# Altium schematic symbol library THD Voltage Reference and Regulators.SchLib: 227 symbols (part 2 of 2)
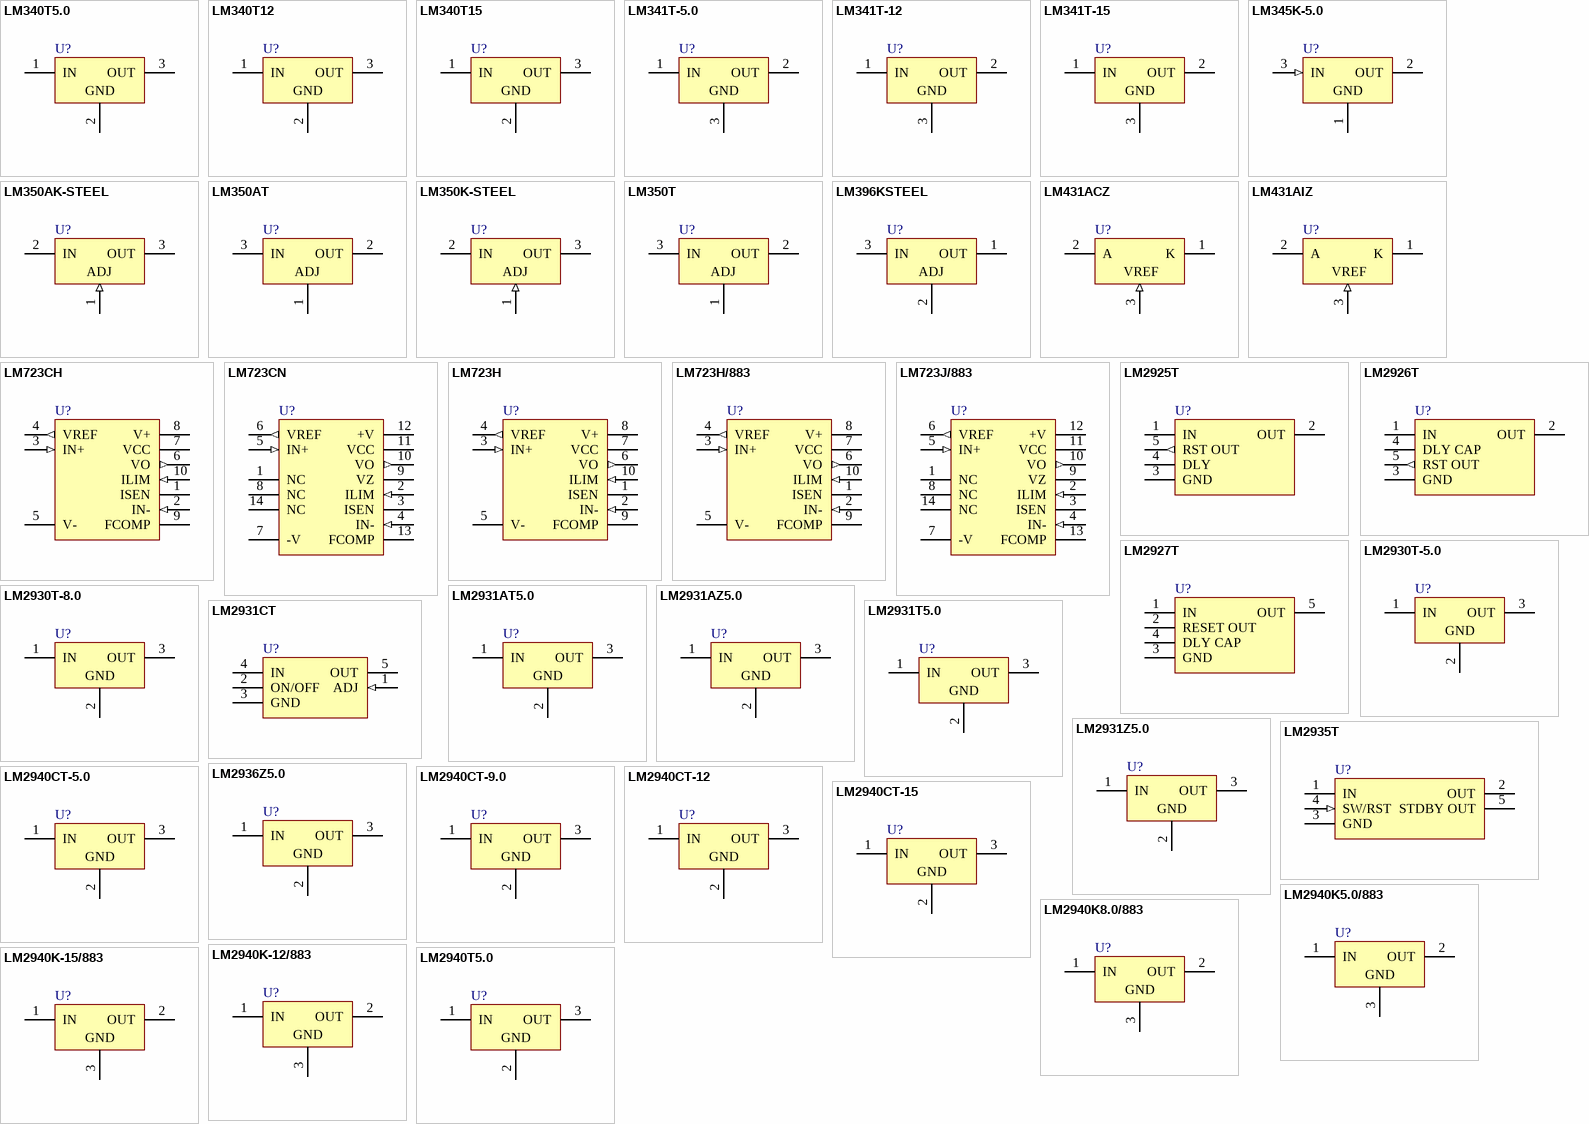
[diagram p6: symbols LM340T5.0 to LM2940T5.0]

## LM2940CT-9.0
designator U?
1A Low-Dropout Regulator; Manufacturer: National Semiconductor; Class: Power Management; SubClass: Voltage Regulator; Published: 15/04/2002; Publisher: Altium Hobart Technology Centre
footprint SFM-T3/A4.7V
pins: 1 IN (power), 2 GND (power), 3 OUT (power)

## LM2940CT-12
designator U?
1A Low-Dropout Regulator; Manufacturer: National Semiconductor; Class: Power Management; SubClass: Voltage Regulator; Note: Tab is connected to GND; Published: 15/04/2002; Publisher: Altium Hobart Technology Centre
footprint SFM-T3/A4.7V
pins: 1 IN (power), 2 GND (power), 3 OUT (power)

## LM2940CT-15
designator U?
1A Low-Dropout Regulator; Manufacturer: National Semiconductor; Class: Power Management; SubClass: Voltage Regulator; Note: Tab is connected to GND; Published: 15/04/2002; Publisher: Altium Hobart Technology Centre
footprint SFM-T3/A4.7V
pins: 1 IN (power), 2 GND (power), 3 OUT (power)

## LM2940K5.0/883
designator U?
1A Low-Dropout Regulator; Manufacturer: National Semiconductor; Class: Power Management; SubClass: Voltage Regulator; Note: Case is GND; Published: 15/04/2002; Publisher: Altium Hobart Technology Centre
footprint MBFM-P2/P7.25
pins: 1 IN (power), 2 OUT (power), 3 GND (power)

## LM2940K8.0/883
designator U?
1A Low-Dropout Regulator; Manufacturer: National Semiconductor; Class: Power Management; SubClass: Voltage Regulator; Note: Case is GND; Published: 15/04/2002; Publisher: Altium Hobart Technology Centre
footprint MBFM-P2/P7.25
pins: 1 IN (power), 2 OUT (power), 3 GND (power)

## LM2940K-12/883
designator U?
1A Low-Dropout Regulator; Manufacturer: National Semiconductor; Class: Power Management; SubClass: Voltage Regulator; Published: 15/04/2002; Publisher: Altium Hobart Technology Centre
footprint MBFM-P2/P7.25
pins: 1 IN (power), 2 OUT (power), 3 GND (power)

## LM2940K-15/883
designator U?
1A Low-Dropout Regulator; Manufacturer: National Semiconductor; Class: Power Management; SubClass: Voltage Regulator; Published: 15/04/2002; Publisher: Altium Hobart Technology Centre
footprint MBFM-P2/P7.25
pins: 1 IN (power), 2 OUT (power), 3 GND (power)

## LM2940T5.0
designator U?
1A Low-Dropout Regulator; Manufacturer: National Semiconductor; Class: Power Management; SubClass: Voltage Regulator; Note: Tab is connected to GND; Published: 15/04/2002; Publisher: Altium Hobart Technology Centre
footprint SFM-T3/A4.7V
pins: 1 IN (power), 2 GND (power), 3 OUT (power)

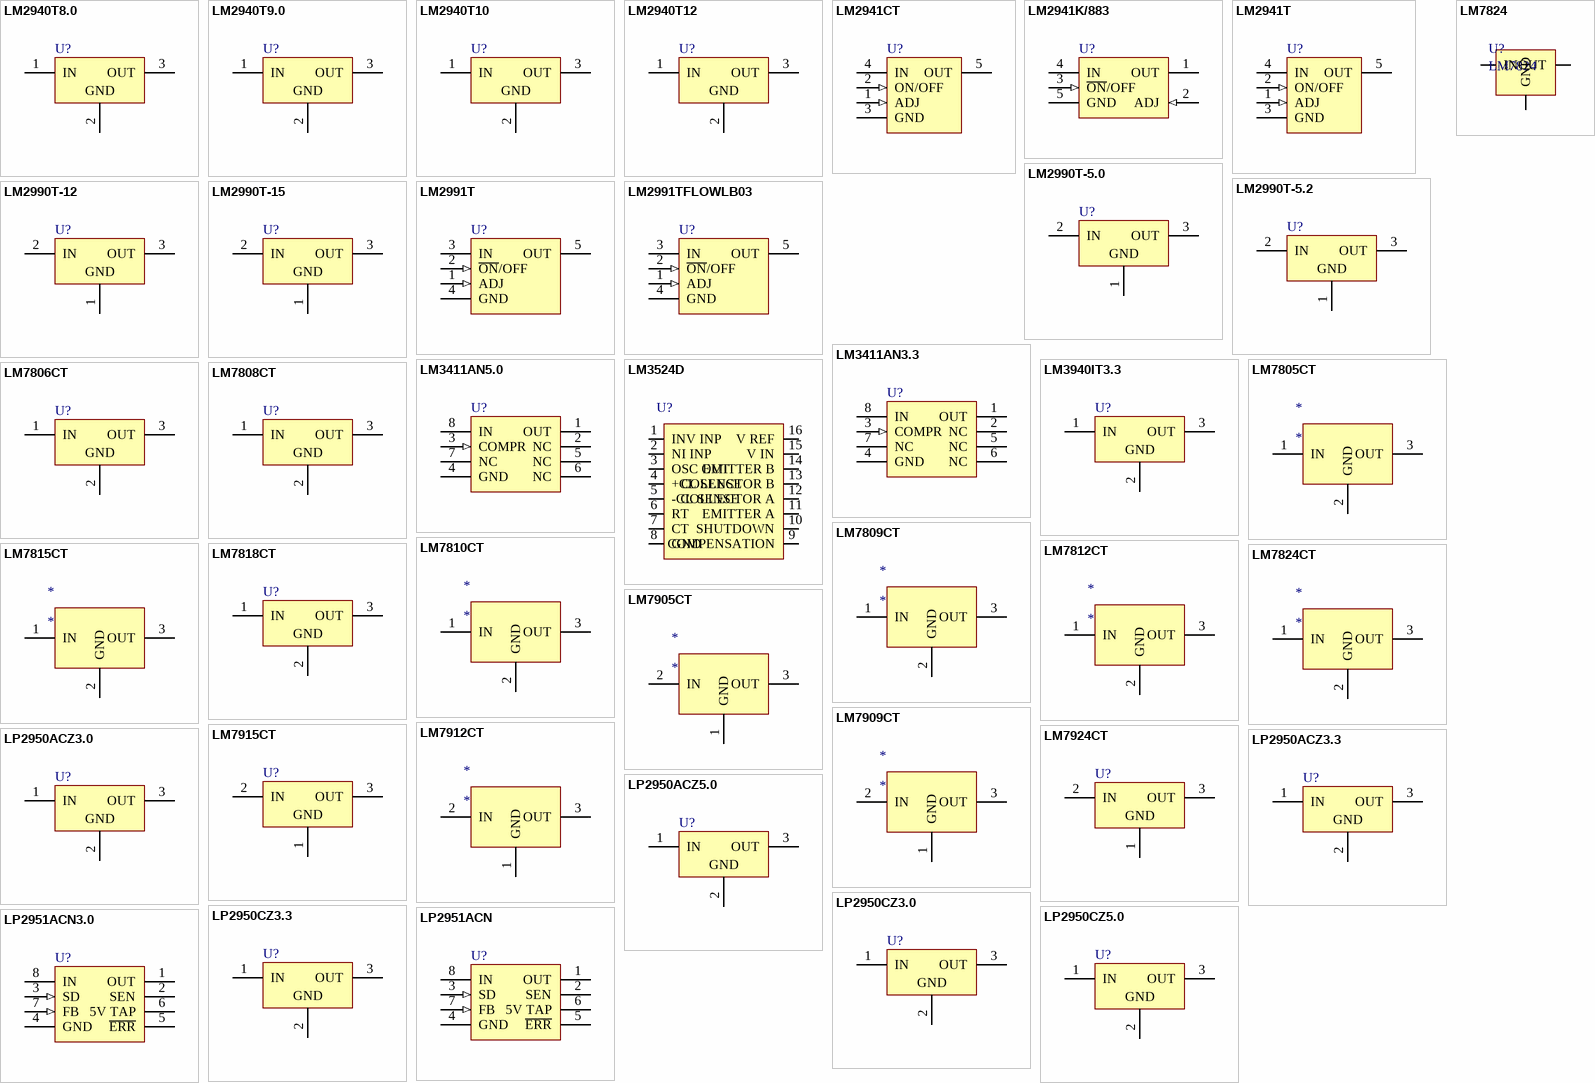
[diagram p4: symbols LM2940T8.0 to LP2951ACN3.0]

## LM2940T8.0
designator U?
1A Low-Dropout Regulator; Manufacturer: National Semiconductor; Class: Power Management; SubClass: Voltage Regulator; Note: Tab is connected to GND; Published: 15/04/2002; Publisher: Altium Hobart Technology Centre
footprint SFM-T3/A4.7V
pins: 1 IN (power), 2 GND (power), 3 OUT (power)

## LM2940T9.0
designator U?
1A Low-Dropout Regulator; Manufacturer: National Semiconductor; Class: Power Management; SubClass: Voltage Regulator; Note: Tab is connected to GND; Published: 15/04/2002; Publisher: Altium Hobart Technology Centre
footprint SFM-T3/A4.7V
pins: 1 IN (power), 2 GND (power), 3 OUT (power)

## LM2940T10
designator U?
1A Low-Dropout Regulator; Manufacturer: National Semiconductor; Class: Power Management; SubClass: Voltage Regulator; Note: Tab is connected to GND; Published: 15/04/2002; Publisher: Altium Hobart Technology Centre
footprint SFM-T3/A4.7V
pins: 1 IN (power), 2 GND (power), 3 OUT (power)

## LM2940T12
designator U?
1A Low-Dropout Regulator; Manufacturer: National Semiconductor; Class: Power Management; SubClass: Voltage Regulator; Note: Tab is connected to GND; Published: 15/04/2002; Publisher: Altium Hobart Technology Centre
footprint SFM-T3/A4.7V
pins: 1 IN (power), 2 GND (power), 3 OUT (power)

## LM2941CT
designator U?
1A Dropout Adjustable Regulator; Manufacturer: National Semiconductor; Class: Power Management; SubClass: Voltage Regulator; Note: Tab is connected to GND; Published: 15/04/2002; Publisher: Altium Hobart Technology Centre
footprint SFM-T5/X1.4V
pins: 1 ADJ (in), 2 ON/OFF (in), 3 GND (power), 4 IN (power), 5 OUT (power)

## LM2941K/883
designator U?
1A Low-Dropout Adjustable Regulator; Manufacturer: National Semiconductor; Class: Power Management; SubClass: Voltage Regulator; Note: Case is GND; Published: 15/04/2002; Publisher: Altium Hobart Technology Centre
footprint MBFM-P4/R13
pins: 1 OUT (power), 2 ADJ (in), 3 ~{ON}/OFF (in), 4 IN (power), 5 GND (power)

## LM2941T
designator U?
1A Dropout Adjustable Regulator; Manufacturer: National Semiconductor; Class: Power Management; SubClass: Voltage Regulator; Note: Tab is connected to GND; Published: 15/04/2002; Publisher: Altium Hobart Technology Centre
footprint SFM-T5/X1.4V
pins: 1 ADJ (in), 2 ON/OFF (in), 3 GND (power), 4 IN (power), 5 OUT (power)

## LM2990T-5.0
designator U?
Negative Low-Dropout Regulator; Manufacturer: National Semiconductor; Class: Power Management; SubClass: Voltage Regulator; Note: Tab is connected to Input; Published: 15/04/2002; Publisher: Altium Hobart Technology Centre
footprint SFM-T3/A4.7V
pins: 1 GND (power), 2 IN (power), 3 OUT (power)

## LM2990T-5.2
designator U?
Negative Low-Dropout Regulator; Manufacturer: National Semiconductor; Class: Power Management; SubClass: Voltage Regulator; Note: Tab is connected to Input; Published: 15/04/2002; Publisher: Altium Hobart Technology Centre
footprint SFM-T3/A4.7V
pins: 1 GND (power), 2 IN (power), 3 OUT (power)

## LM2990T-12
designator U?
Negative Low-Dropout Regulator; Manufacturer: National Semiconductor; Class: Power Management; SubClass: Voltage Regulator; Note: Tab is connected to Input; Published: 15/04/2002; Publisher: Altium Hobart Technology Centre
footprint SFM-T3/A4.7V
pins: 1 GND (power), 2 IN (power), 3 OUT (power)

## LM2990T-15
designator U?
Negative Low-Dropout Regulator; Manufacturer: National Semiconductor; Class: Power Management; SubClass: Voltage Regulator; Note: Tab is connected to Input; Published: 15/04/2002; Publisher: Altium Hobart Technology Centre
footprint SFM-T3/A4.7V
pins: 1 GND (power), 2 IN (power), 3 OUT (power)

## LM2991T
designator U?
Negative Low-Dropout Adjustable Regulator; Manufacturer: National Semiconductor; Class: Power Management; SubClass: Voltage Regulator; Note: Tab is connected to Input; Published: 15/04/2002; Publisher: Altium Hobart Technology Centre
footprint SFM-T5/X1.4V
pins: 1 ADJ (in), 2 ~{ON}/OFF (in), 3 IN (power), 4 GND (power), 5 OUT (power)

## LM2991TFLOWLB03
designator U?
Negative Low-Dropout Adjustable Regulator; Manufacturer: National Semiconductor; Class: Power Management; SubClass: Voltage Regulator; Note: Tab is connected to Input; Published: 15/04/2002; Publisher: Altium Hobart Technology Centre
footprint DFM-T5/A4.7V
pins: 1 ADJ (in), 2 ~{ON}/OFF (in), 3 IN (power), 4 GND (power), 5 OUT (power)

## LM3411AN3.3
designator U?
Precision Secondary Regulation / Driver; Manufacturer: National Semiconductor; Class: Power Management; SubClass: Voltage Regulator; Published: 15/04/2002; Publisher: Altium Hobart Technology Centre
footprint DIP-8
pins: 1 OUT (power), 2 NC, 3 COMPR (in), 4 GND (power), 5 NC, 6 NC, 7 NC, 8 IN (power)

## LM3411AN5.0
designator U?
Precision Secondary Regulation / Driver; Manufacturer: National Semiconductor; Class: Power Management; SubClass: Voltage Regulator; Published: 15/04/2002; Publisher: Altium Hobart Technology Centre
footprint DIP-8
pins: 1 OUT (power), 2 NC, 3 COMPR (in), 4 GND (power), 5 NC, 6 NC, 7 NC, 8 IN (power)

## LM3524D
designator U?
Regulating (PWM) Pulse Width Modulator with High Precision Voltage Reference
footprint DIP16-300 (DIP, Molded; 16 Leads; Row Spacing 7.62 mm; Pitch 2.54 mm)
pins: 1 INV INP, 2 NI INP, 3 OSC OUT, 4 +CL SENSE, 5 -CL SENSE, 6 RT, 7 CT, 8 GND, 9 COMPENSATION, 10 SHUTDOWN, 11 EMITTER A, 12 COLLECTOR A, 13 COLLECTOR B, 14 EMITTER B, 15 V IN, 16 V REF

## LM3940IT3.3
designator U?
1A Low-Dropout Regulator For 5V to 3.3V Conversion; Manufacturer: National Semiconductor; Class: Power Management; SubClass: Voltage Regulator; Note: Tab is connected to GND; Published: 15/04/2002; Publisher: Altium Hobart Technology Centre
footprint SFM-T3/A4.7V
pins: 1 IN (power), 2 GND (power), 3 OUT (power)

## LM7805CT
designator *
3 Terminal 5V 1A Positive Voltage Regualtor
footprint TO-220AB-Vertical (TO, Thru-Hole, Vertical, Heatsink Mounted; 3 In-Line Leads; Pitch 2.54 mm)
footprint TO-220AB-Horizontal (TO, Thru-Hole, Vertical, Heatsink Mounted; 3 In-Line Leads; Pitch 2.54 mm)
pins: 1 IN (power), 2 GND (power), 3 OUT

## LM7806CT
designator U?
Series 3-Terminal Positive Regulator; Manufacturer: National Semiconductor; Class: Power Management; SubClass: Voltage Regulator; Note: Tab is connected to GND; Published: 15/04/2002; Publisher: Altium Hobart Technology Centre
footprint TO-220AB-Horizontal (TO, Thru-Hole, Vertical, Heatsink Mounted; 3 In-Line Leads; Pitch 2.54 mm)
footprint TO-220AB-Vertical (TO, Thru-Hole, Vertical, Heatsink Mounted; 3 In-Line Leads; Pitch 2.54 mm)
pins: 1 IN (power), 2 GND (power), 3 OUT (power)

## LM7808CT
designator U?
Series 3-Terminal Positive Regulator; Manufacturer: National Semiconductor; Class: Power Management; SubClass: Voltage Regulator; Note: Tab is connected to GND; Published: 15/04/2002; Publisher: Altium Hobart Technology Centre
footprint TO-220AB-Horizontal (TO, Thru-Hole, Vertical, Heatsink Mounted; 3 In-Line Leads; Pitch 2.54 mm)
footprint TO-220AB-Vertical (TO, Thru-Hole, Vertical, Heatsink Mounted; 3 In-Line Leads; Pitch 2.54 mm)
pins: 1 IN (power), 2 GND (power), 3 OUT (power)

## LM7809CT
designator *
3 Terminal 9V 1A Positive Voltage Regualtor
footprint TO-220AB-Vertical (TO, Thru-Hole, Vertical, Heatsink Mounted; 3 In-Line Leads; Pitch 2.54 mm)
footprint TO-220AB-Horizontal (TO, Thru-Hole, Vertical, Heatsink Mounted; 3 In-Line Leads; Pitch 2.54 mm)
pins: 1 IN (power), 2 GND (power), 3 OUT

## LM7810CT
designator *
3 Terminal 10V 1A Positive Voltage Regualtor
footprint TO-220AB-Vertical (TO, Thru-Hole, Vertical, Heatsink Mounted; 3 In-Line Leads; Pitch 2.54 mm)
footprint TO-220AB-Horizontal (TO, Thru-Hole, Vertical, Heatsink Mounted; 3 In-Line Leads; Pitch 2.54 mm)
pins: 1 IN (power), 2 GND (power), 3 OUT

## LM7812CT
designator *
3 Terminal 12V 1A Positive Voltage Regualtor
footprint TO-220AB-Vertical (TO, Thru-Hole, Vertical, Heatsink Mounted; 3 In-Line Leads; Pitch 2.54 mm)
footprint TO-220AB-Horizontal (TO, Thru-Hole, Vertical, Heatsink Mounted; 3 In-Line Leads; Pitch 2.54 mm)
pins: 1 IN (power), 2 GND (power), 3 OUT

## LM7815CT
designator *
3 Terminal 15V 1A Positive Voltage Regualtor
footprint TO-220AB-Vertical (TO, Thru-Hole, Vertical, Heatsink Mounted; 3 In-Line Leads; Pitch 2.54 mm)
footprint TO-220AB-Horizontal (TO, Thru-Hole, Vertical, Heatsink Mounted; 3 In-Line Leads; Pitch 2.54 mm)
pins: 1 IN (power), 2 GND (power), 3 OUT

## LM7818CT
designator U?
Series 3-Terminal Positive Regulator; Manufacturer: National Semiconductor; Class: Power Management; SubClass: Voltage Regulator; Note: Tab is connected to GND; Published: 15/04/2002; Publisher: Altium Hobart Technology Centre
footprint TO-220AB-Horizontal (TO, Thru-Hole, Vertical, Heatsink Mounted; 3 In-Line Leads; Pitch 2.54 mm)
footprint TO-220AB-Vertical (TO, Thru-Hole, Vertical, Heatsink Mounted; 3 In-Line Leads; Pitch 2.54 mm)
pins: 1 IN (power), 2 GND (power), 3 OUT (power)

## LM7824
designator U?
1A, 24V LDO Voltage Regulator
footprint TO-220AB-Horizontal (TO, Thru-Hole, Vertical, Heatsink Mounted; 3 In-Line Leads; Pitch 2.54 mm)
footprint TO-220AB-Vertical (TO, Thru-Hole, Vertical, Heatsink Mounted; 3 In-Line Leads; Pitch 2.54 mm)
pins: 1 IN, 2 GND, 3 OUT

## LM7824CT
designator *
3 Terminal 24V 1A Positive Voltage Regualtor
footprint TO-220AB-Vertical (TO, Thru-Hole, Vertical, Heatsink Mounted; 3 In-Line Leads; Pitch 2.54 mm)
footprint TO-220AB-Horizontal (TO, Thru-Hole, Vertical, Heatsink Mounted; 3 In-Line Leads; Pitch 2.54 mm)
pins: 1 IN (power), 2 GND (power), 3 OUT

## LM7905CT
designator *
3 Terminal 5V 1A Negative Voltage Regualtor
footprint TO-220AB-Vertical (TO, Thru-Hole, Vertical, Heatsink Mounted; 3 In-Line Leads; Pitch 2.54 mm)
footprint TO-220AB-Horizontal (TO, Thru-Hole, Vertical, Heatsink Mounted; 3 In-Line Leads; Pitch 2.54 mm)
pins: 1 GND (power), 2 IN (power), 3 OUT

## LM7909CT
designator *
3 Terminal 9V 1A Negative Voltage Regualtor
footprint TO-220AB-Vertical (TO, Thru-Hole, Vertical, Heatsink Mounted; 3 In-Line Leads; Pitch 2.54 mm)
footprint TO-220AB-Horizontal (TO, Thru-Hole, Vertical, Heatsink Mounted; 3 In-Line Leads; Pitch 2.54 mm)
pins: 1 GND (power), 2 IN (power), 3 OUT

## LM7912CT
designator *
3 Terminal 12V 1A Negative Voltage Regualtor
footprint TO-220AB-Vertical (TO, Thru-Hole, Vertical, Heatsink Mounted; 3 In-Line Leads; Pitch 2.54 mm)
footprint TO-220AB-Horizontal (TO, Thru-Hole, Vertical, Heatsink Mounted; 3 In-Line Leads; Pitch 2.54 mm)
pins: 1 GND (power), 2 IN (power), 3 OUT

## LM7915CT
designator U?
3-Terminal Negative Regulator; Manufacturer: National Semiconductor; Class: Power Management; SubClass: Voltage Regulator; Note: Tab is connected to Input; Published: 15/04/2002; Publisher: Altium Hobart Technology Centre
footprint TO-220AB-Horizontal (TO, Thru-Hole, Vertical, Heatsink Mounted; 3 In-Line Leads; Pitch 2.54 mm)
footprint TO-220AB-Vertical (TO, Thru-Hole, Vertical, Heatsink Mounted; 3 In-Line Leads; Pitch 2.54 mm)
pins: 1 GND (power), 2 IN (power), 3 OUT (power)

## LM7924CT
designator U?
3-Terminal Negative Regulator; Manufacturer: National Semiconductor; Class: Power Management; SubClass: Voltage Regulator; Note: Tab is connected to Input; Published: 15/04/2002; Publisher: Altium Hobart Technology Centre
footprint TO-220AB-Horizontal (TO, Thru-Hole, Vertical, Heatsink Mounted; 3 In-Line Leads; Pitch 2.54 mm)
footprint TO-220AB-Vertical (TO, Thru-Hole, Vertical, Heatsink Mounted; 3 In-Line Leads; Pitch 2.54 mm)
pins: 1 GND (power), 2 IN (power), 3 OUT (power)

## LP2950ACZ3.0
designator U?
Series of Adjustable Micropower Voltage Regulator; Manufacturer: National Semiconductor; Class: Power Management; Published: 15/04/2002; Publisher: Altium Hobart Technology Centre; SubClass: Voltage Regulator
footprint BCY-W3/E3.7
pins: 1 IN (power), 2 GND (power), 3 OUT (power)

## LP2950ACZ3.3
designator U?
Series of Adjustable Micropower Voltage Regulator; Manufacturer: National Semiconductor; Class: Power Management; Published: 15/04/2002; Publisher: Altium Hobart Technology Centre; SubClass: Voltage Regulator
footprint BCY-W3/E3.7
pins: 1 IN (power), 2 GND (power), 3 OUT (power)

## LP2950ACZ5.0
designator U?
Series of Adjustable Micropower Voltage Regulator; Manufacturer: National Semiconductor; Class: Power Management; Published: 15/04/2002; Publisher: Altium Hobart Technology Centre; SubClass: Voltage Regulator
footprint BCY-W3/E3.7
pins: 1 IN (power), 2 GND (power), 3 OUT (power)

## LP2950CZ3.0
designator U?
Series of Adjustable Micropower Voltage Regulator; Manufacturer: National Semiconductor; Class: Power Management; Published: 15/04/2002; Publisher: Altium Hobart Technology Centre; SubClass: Voltage Regulator
footprint BCY-W3/E3.7
pins: 1 IN (power), 2 GND (power), 3 OUT (power)

## LP2950CZ3.3
designator U?
Series of Adjustable Micropower Voltage Regulator; Manufacturer: National Semiconductor; Class: Power Management; Published: 15/04/2002; Publisher: Altium Hobart Technology Centre; SubClass: Voltage Regulator
footprint BCY-W3/E3.7
pins: 1 IN (power), 2 GND (power), 3 OUT (power)

## LP2950CZ5.0
designator U?
Series of Adjustable Micropower Voltage Regulator; Manufacturer: National Semiconductor; Class: Power Management; Published: 15/04/2002; Publisher: Altium Hobart Technology Centre; SubClass: Voltage Regulator
footprint BCY-W3/E3.7
pins: 1 IN (power), 2 GND (power), 3 OUT (power)

## LP2951ACN
designator U?
Series of Adjustable Micropower Voltage Regulator; Manufacturer: National Semiconductor; Class: Power Management; Published: 15/04/2002; Publisher: Altium Hobart Technology Centre; SubClass: Voltage Regulator
footprint DIP-8
pins: 1 OUT (power), 2 SEN, 3 SD (in), 4 GND (power), 5 ~{ERR} (oc), 6 5V TAP, 7 FB (in), 8 IN (power)

## LP2951ACN3.0
designator U?
Series of Adjustable Micropower Voltage Regulator; Manufacturer: National Semiconductor; Class: Power Management; Published: 15/04/2002; Publisher: Altium Hobart Technology Centre; SubClass: Voltage Regulator
footprint DIP-8
pins: 1 OUT (power), 2 SEN, 3 SD (in), 4 GND (power), 5 ~{ERR} (oc), 6 5V TAP, 7 FB (in), 8 IN (power)

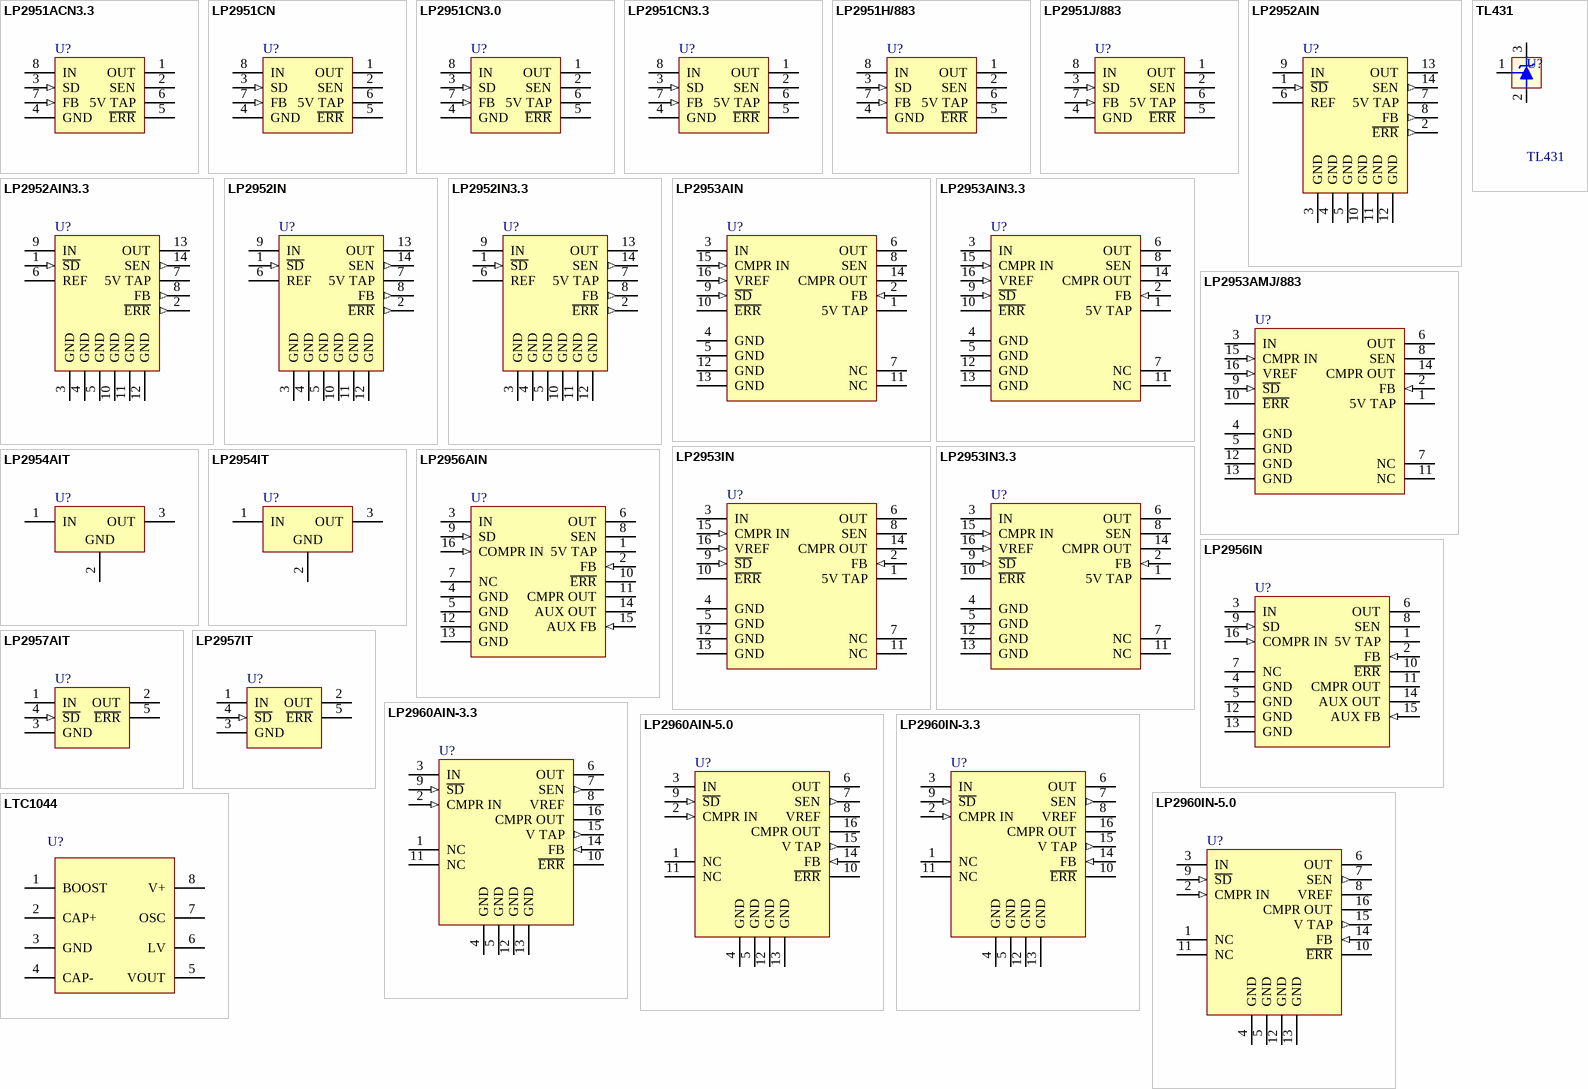
[diagram p5: symbols LP2951ACN3.3 to TL431]

## LP2951ACN3.3
designator U?
Series of Adjustable Micropower Voltage Regulator; Manufacturer: National Semiconductor; Class: Power Management; Published: 15/04/2002; Publisher: Altium Hobart Technology Centre; SubClass: Voltage Regulator
footprint DIP-8
pins: 1 OUT (power), 2 SEN, 3 SD (in), 4 GND (power), 5 ~{ERR} (oc), 6 5V TAP, 7 FB (in), 8 IN (power)

## LP2951CN
designator U?
Series of Adjustable Micropower Voltage Regulator; Manufacturer: National Semiconductor; Class: Power Management; Published: 15/04/2002; Publisher: Altium Hobart Technology Centre; SubClass: Voltage Regulator
footprint DIP-8
pins: 1 OUT (power), 2 SEN, 3 SD (in), 4 GND (power), 5 ~{ERR} (oc), 6 5V TAP, 7 FB (in), 8 IN (power)

## LP2951CN3.0
designator U?
Series of Adjustable Micropower Voltage Regulator; Manufacturer: National Semiconductor; Class: Power Management; Published: 15/04/2002; Publisher: Altium Hobart Technology Centre; SubClass: Voltage Regulator
footprint DIP-8
pins: 1 OUT (power), 2 SEN, 3 SD (in), 4 GND (power), 5 ~{ERR} (oc), 6 5V TAP, 7 FB (in), 8 IN (power)

## LP2951CN3.3
designator U?
Series of Adjustable Micropower Voltage Regulator; Manufacturer: National Semiconductor; Class: Power Management; Published: 15/04/2002; Publisher: Altium Hobart Technology Centre; SubClass: Voltage Regulator
footprint DIP-8
pins: 1 OUT (power), 2 SEN, 3 SD (in), 4 GND (power), 5 ~{ERR} (oc), 6 5V TAP, 7 FB (in), 8 IN (power)

## LP2951H/883
designator U?
Series of Adjustable Micropower Voltage Regulator; Manufacturer: National Semiconductor; Class: Power Management; Published: 15/04/2002; Publisher: Altium Hobart Technology Centre; SubClass: Voltage Regulator
footprint CAN-8/J.9
pins: 1 OUT (power), 2 SEN, 3 SD (in), 4 GND (power), 5 ~{ERR} (oc), 6 5V TAP, 7 FB (in), 8 IN (power)

## LP2951J/883
designator U?
Series of Adjustable Micropower Voltage Regulator; Manufacturer: National Semiconductor; Class: Power Management; Published: 15/04/2002; Publisher: Altium Hobart Technology Centre; SubClass: Voltage Regulator
footprint DIP-8
pins: 1 OUT (power), 2 SEN, 3 SD (in), 4 GND (power), 5 ~{ERR} (oc), 6 5V TAP, 7 FB (in), 8 IN (power)

## LP2952AIN
designator U?
Adjustable Micropower Low-Dropout Voltage Regulator; Manufacturer: National Semiconductor; Class: Power Management; Published: 15/04/2002; Publisher: Altium Hobart Technology Centre; SubClass: Voltage Regulator
footprint DIP-14/D19.7
pins: 1 ~{SD} (in), 2 ~{ERR} (out), 3 GND (power), 4 GND (power), 5 GND (power), 6 REF (power), 7 5V TAP (power), 8 FB (out), 9 IN (power), 10 GND (power), 11 GND (power), 12 GND (power), 13 OUT (power), 14 SEN (out)

## LP2952AIN3.3
designator U?
Adjustable Micropower Low-Dropout Voltage Regulator; Manufacturer: National Semiconductor; Class: Power Management; Published: 15/04/2002; Publisher: Altium Hobart Technology Centre; SubClass: Voltage Regulator
footprint DIP-14/D19.7
pins: 1 ~{SD} (in), 2 ~{ERR} (out), 3 GND (power), 4 GND (power), 5 GND (power), 6 REF (power), 7 5V TAP (power), 8 FB (out), 9 IN (power), 10 GND (power), 11 GND (power), 12 GND (power), 13 OUT (power), 14 SEN (out)

## LP2952IN
designator U?
Adjustable Micropower Low-Dropout Voltage Regulator; Manufacturer: National Semiconductor; Class: Power Management; Published: 15/04/2002; Publisher: Altium Hobart Technology Centre; SubClass: Voltage Regulator
footprint DIP-14/D19.7
pins: 1 ~{SD} (in), 2 ~{ERR} (out), 3 GND (power), 4 GND (power), 5 GND (power), 6 REF (power), 7 5V TAP (power), 8 FB (out), 9 IN (power), 10 GND (power), 11 GND (power), 12 GND (power), 13 OUT (power), 14 SEN (out)

## LP2952IN3.3
designator U?
Adjustable Micropower Low-Dropout Voltage Regulator; Manufacturer: National Semiconductor; Class: Power Management; Published: 15/04/2002; Publisher: Altium Hobart Technology Centre; SubClass: Voltage Regulator
footprint DIP-14/D19.7
pins: 1 ~{SD} (in), 2 ~{ERR} (out), 3 GND (power), 4 GND (power), 5 GND (power), 6 REF (power), 7 5V TAP (power), 8 FB (out), 9 IN (power), 10 GND (power), 11 GND (power), 12 GND (power), 13 OUT (power), 14 SEN (out)

## LP2953AIN
designator U?
Adjustable Micropower Low-Dropout Voltage Regulator; Manufacturer: National Semiconductor; Class: Power Management; Published: 15/04/2002; Publisher: Altium Hobart Technology Centre; SubClass: Voltage Regulator
footprint DIP-16/D22.5
pins: 1 5V TAP, 2 FB (in), 3 IN (power), 4 GND (power), 5 GND (power), 6 OUT (power), 7 NC, 8 SEN, 9 ~{SD} (in), 10 ~{ERR} (oc), 11 NC, 12 GND (power), 13 GND (power), 14 CMPR OUT (oc), 15 CMPR IN (in), 16 VREF (in)

## LP2953AIN3.3
designator U?
Adjustable Micropower Low-Dropout Voltage Regulator; Manufacturer: National Semiconductor; Class: Power Management; Published: 15/04/2002; Publisher: Altium Hobart Technology Centre; SubClass: Voltage Regulator
footprint DIP-16/D22.5
pins: 1 5V TAP, 2 FB (in), 3 IN (power), 4 GND (power), 5 GND (power), 6 OUT (power), 7 NC, 8 SEN, 9 ~{SD} (in), 10 ~{ERR} (oc), 11 NC, 12 GND (power), 13 GND (power), 14 CMPR OUT (oc), 15 CMPR IN (in), 16 VREF (in)

## LP2953AMJ/883
designator U?
Adjustable Micropower Low-Dropout Voltage Regulator; Manufacturer: National Semiconductor; Class: Power Management; Published: 15/04/2002; Publisher: Altium Hobart Technology Centre; SubClass: Voltage Regulator
footprint DIP-16/D22.5
pins: 1 5V TAP, 2 FB (in), 3 IN (power), 4 GND (power), 5 GND (power), 6 OUT (power), 7 NC, 8 SEN, 9 ~{SD} (in), 10 ~{ERR} (oc), 11 NC, 12 GND (power), 13 GND (power), 14 CMPR OUT (oc), 15 CMPR IN (in), 16 VREF (in)

## LP2953IN
designator U?
Adjustable Micropower Low-Dropout Voltage Regulator; Manufacturer: National Semiconductor; Class: Power Management; Published: 15/04/2002; Publisher: Altium Hobart Technology Centre; SubClass: Voltage Regulator
footprint DIP-16/D22.5
pins: 1 5V TAP, 2 FB (in), 3 IN (power), 4 GND (power), 5 GND (power), 6 OUT (power), 7 NC, 8 SEN, 9 ~{SD} (in), 10 ~{ERR} (oc), 11 NC, 12 GND (power), 13 GND (power), 14 CMPR OUT (oc), 15 CMPR IN (in), 16 VREF (in)

## LP2953IN3.3
designator U?
Adjustable Micropower Low-Dropout Voltage Regulator; Manufacturer: National Semiconductor; Class: Power Management; Published: 15/04/2002; Publisher: Altium Hobart Technology Centre; SubClass: Voltage Regulator
footprint DIP-16/D22.5
pins: 1 5V TAP, 2 FB (in), 3 IN (power), 4 GND (power), 5 GND (power), 6 OUT (power), 7 NC, 8 SEN, 9 ~{SD} (in), 10 ~{ERR} (oc), 11 NC, 12 GND (power), 13 GND (power), 14 CMPR OUT (oc), 15 CMPR IN (in), 16 VREF (in)

## LP2954AIT
designator U?
5V and Adjustable Micropower Low-Dropout Voltage Regulator; Manufacturer: National Semiconductor; Class: Power Management; Note: Tab is connected to GND; Published: 15/04/2002; Publisher: Altium Hobart Technology Centre; SubClass: Voltage Regulator
footprint SFM-T3/A4.7V
pins: 1 IN (power), 2 GND (power), 3 OUT (power)

## LP2954IT
designator U?
5V and Adjustable Micropower Low-Dropout Voltage Regulator; Manufacturer: National Semiconductor; Class: Power Management; Note: Tab is connected to GND; Published: 15/04/2002; Publisher: Altium Hobart Technology Centre; SubClass: Voltage Regulator
footprint SFM-T3/A4.7V
pins: 1 IN (power), 2 GND (power), 3 OUT (power)

## LP2956AIN
designator U?
Dual Micropower Low-Dropout Voltage Regulator; Manufacturer: National Semiconductor; Class: Power Management; Published: 15/04/2002; Publisher: Altium Hobart Technology Centre; SubClass: Voltage Regulator
footprint DIP-16/D22.5
pins: 1 5V TAP, 2 FB (in), 3 IN (power), 4 GND (power), 5 GND (power), 6 OUT (power), 7 NC, 8 SEN, 9 SD (in), 10 ~{ERR} (oc), 11 CMPR OUT (oc), 12 GND (power), 13 GND (power), 14 AUX OUT (power), 15 AUX FB (in), 16 COMPR IN (in)

## LP2956IN
designator U?
Dual Micropower Low-Dropout Voltage Regulator; Manufacturer: National Semiconductor; Class: Power Management; Published: 15/04/2002; Publisher: Altium Hobart Technology Centre; SubClass: Voltage Regulator
footprint DIP-16/D22.5
pins: 1 5V TAP, 2 FB (in), 3 IN (power), 4 GND (power), 5 GND (power), 6 OUT (power), 7 NC, 8 SEN, 9 SD (in), 10 ~{ERR} (oc), 11 CMPR OUT (oc), 12 GND (power), 13 GND (power), 14 AUX OUT (power), 15 AUX FB (in), 16 COMPR IN (in)

## LP2957AIT
designator U?
5V Low-Dropout Regulator for Microprocessor Application; Manufacturer: National Semiconductor; Class: Power Management; SubClass: Voltage Regulator; Note: Tab is connected to GND; Published: 15/04/2002; Publisher: Altium Hobart Technology Centre
footprint DFM-T5/A4.7V
pins: 1 IN (power), 2 OUT (power), 3 GND (power), 4 ~{SD} (in), 5 ~{ERR} (oc)

## LP2957IT
designator U?
5V Low-Dropout Regulator for Microprocessor Application; Manufacturer: National Semiconductor; Class: Power Management; SubClass: Voltage Regulator; Note: Tab is connected to GND; Published: 15/04/2002; Publisher: Altium Hobart Technology Centre
footprint DFM-T5/A4.7V
pins: 1 IN (power), 2 OUT (power), 3 GND (power), 4 ~{SD} (in), 5 ~{ERR} (oc)

## LP2960AIN-3.3
designator U?
Adjustable Micropower 0.5 Low-Dropout Regulator; Manufacturer: National Semiconductor; Class: Power Management; SubClass: Voltage Regulator; Published: 15/04/2002; Publisher: Altium Hobart Technology Centre
footprint DIP-16/D22.5
pins: 1 NC, 2 CMPR IN (in), 3 IN (power), 4 GND (power), 5 GND (power), 6 OUT (power), 7 SEN (out), 8 VREF, 9 ~{SD} (in), 10 ~{ERR} (oc), 11 NC, 12 GND (power), 13 GND (power), 14 FB (in), 15 V TAP (out), 16 CMPR OUT (oc)

## LP2960AIN-5.0
designator U?
Adjustable Micropower 0.5 Low-Dropout Regulator; Manufacturer: National Semiconductor; Class: Power Management; SubClass: Voltage Regulator; Published: 15/04/2002; Publisher: Altium Hobart Technology Centre
footprint DIP-16/D22.5
pins: 1 NC, 2 CMPR IN (in), 3 IN (power), 4 GND (power), 5 GND (power), 6 OUT (power), 7 SEN (out), 8 VREF, 9 ~{SD} (in), 10 ~{ERR} (oc), 11 NC, 12 GND (power), 13 GND (power), 14 FB (in), 15 V TAP (out), 16 CMPR OUT (oc)

## LP2960IN-3.3
designator U?
Adjustable Micropower 0.5 Low-Dropout Regulator; Manufacturer: National Semiconductor; Class: Power Management; SubClass: Voltage Regulator; Published: 15/04/2002; Publisher: Altium Hobart Technology Centre
footprint DIP-16/D22.5
pins: 1 NC, 2 CMPR IN (in), 3 IN (power), 4 GND (power), 5 GND (power), 6 OUT (power), 7 SEN (out), 8 VREF, 9 ~{SD} (in), 10 ~{ERR} (oc), 11 NC, 12 GND (power), 13 GND (power), 14 FB (in), 15 V TAP (out), 16 CMPR OUT (oc)

## LP2960IN-5.0
designator U?
Adjustable Micropower 0.5 Low-Dropout Regulator; Manufacturer: National Semiconductor; Class: Power Management; SubClass: Voltage Regulator; Published: 15/04/2002; Publisher: Altium Hobart Technology Centre
footprint DIP-16/D22.5
pins: 1 NC, 2 CMPR IN (in), 3 IN (power), 4 GND (power), 5 GND (power), 6 OUT (power), 7 SEN (out), 8 VREF, 9 ~{SD} (in), 10 ~{ERR} (oc), 11 NC, 12 GND (power), 13 GND (power), 14 FB (in), 15 V TAP (out), 16 CMPR OUT (oc)

## LTC1044
designator U?
Switched-Capacitor Voltage Converters
footprint DIP8-300 (DIP; 8 Leads; Row Spacing 7.62 mm; Pitch 2.54 mm)
pins: 1 BOOST (power), 2 CAP+ (power), 3 GND, 4 CAP-, 5 VOUT, 6 LV, 7 OSC, 8 V+

## TL431
designator U?
Precision Programmable Reference
footprint TO-92-1 (TO, Flat Index; 3 In-Line, Axial Leads; Body Dia. 4.5mm; Leads 0.51 x 0.48 mm (max))
pins: 1 REF, 2 A, 3 K